# Altium schematic symbol library MP34DT05-A.SchLib: 1 symbol
Pins are listed as number, name and electrical type; pins without a type are passive.

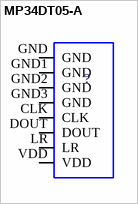
[diagram p0: symbol MP34DT05-A]

## MP34DT05-A
designator ?  (value not drawn)
Mic Omni-Directional -26dB 3.6Vdc Rectangular Solder Pad; MP: MP34DT05-A; MF: STMicroelectronics; Package: None; Availability: Unavailable; SnapEDA_Link: https://www.snapeda.com/parts/MP34DT05-A/STMicroelectronics/view-part/?ref=snap; Price: None; Value: *
footprint MIC-PACK_MP34DT05-A(Primary)
footprint MIC-PACK_MP34DT05-A(Primary)
pins: CLK (io), DOUT (io), GND (io), GND1 GND (io), GND2 GND (io), GND3 GND (io), LR (io), VDD (io)